# Altium schematic symbol library SCH - MCU - INFINEON XMC - INFINEON XMC1301T038.SchLib: 1 symbol
Pins are listed as number, name and electrical type; pins without a type are passive.

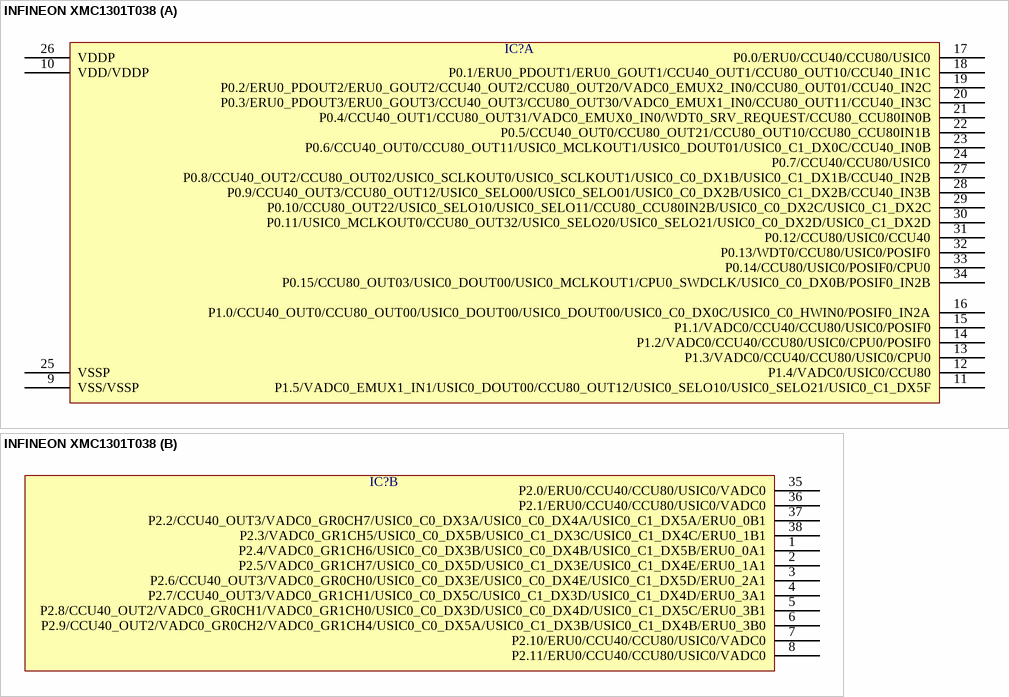
[diagram p0: symbol INFINEON XMC1301T038]

## INFINEON XMC1301T038
designator IC?  (value not drawn)
part A pins: 9 VSS/VSSP, 10 VDD/VDDP, 11 P1.5/VADC0_EMUX1_IN1/USIC0_DOUT00/CCU80_OUT12/USIC0_SELO10/USIC0_SELO21/USIC0_C1_DX5F, 12 P1.4/VADC0/USIC0/CCU80, 13 P1.3/VADC0/CCU40/CCU80/USIC0/CPU0, 14 P1.2/VADC0/CCU40/CCU80/USIC0/CPU0/POSIF0, 15 P1.1/VADC0/CCU40/CCU80/USIC0/POSIF0, 16 P1.0/CCU40_OUT0/CCU80_OUT00/USIC0_DOUT00/USIC0_DOUT00/USIC0_C0_DX0C/USIC0_C0_HWIN0/POSIF0_IN2A, 17 P0.0/ERU0/CCU40/CCU80/USIC0, 18 P0.1/ERU0_PDOUT1/ERU0_GOUT1/CCU40_OUT1/CCU80_OUT10/CCU40_IN1C, 19 P0.2/ERU0_PDOUT2/ERU0_GOUT2/CCU40_OUT2/CCU80_OUT20/VADC0_EMUX2_IN0/CCU80_OUT01/CCU40_IN2C, 20 P0.3/ERU0_PDOUT3/ERU0_GOUT3/CCU40_OUT3/CCU80_OUT30/VADC0_EMUX1_IN0/CCU80_OUT11/CCU40_IN3C, 21 P0.4/CCU40_OUT1/CCU80_OUT31/VADC0_EMUX0_IN0/WDT0_SRV_REQUEST/CCU80_CCU80IN0B, 22 P0.5/CCU40_OUT0/CCU80_OUT21/CCU80_OUT10/CCU80_CCU80IN1B, 23 P0.6/CCU40_OUT0/CCU80_OUT11/USIC0_MCLKOUT1/USIC0_DOUT01/USIC0_C1_DX0C/CCU40_IN0B, 24 P0.7/CCU40/CCU80/USIC0, 25 VSSP, 26 VDDP, 27 P0.8/CCU40_OUT2/CCU80_OUT02/USIC0_SCLKOUT0/USIC0_SCLKOUT1/USIC0_C0_DX1B/USIC0_C1_DX1B/CCU40_IN2B, 28 P0.9/CCU40_OUT3/CCU80_OUT12/USIC0_SELO00/USIC0_SELO01/USIC0_C0_DX2B/USIC0_C1_DX2B/CCU40_IN3B, 29 P0.10/CCU80_OUT22/USIC0_SELO10/USIC0_SELO11/CCU80_CCU80IN2B/USIC0_C0_DX2C/USIC0_C1_DX2C, 30 P0.11/USIC0_MCLKOUT0/CCU80_OUT32/USIC0_SELO20/USIC0_SELO21/USIC0_C0_DX2D/USIC0_C1_DX2D, 31 P0.12/CCU80/USIC0/CCU40, 32 P0.13/WDT0/CCU80/USIC0/POSIF0, 33 P0.14/CCU80/USIC0/POSIF0/CPU0, 34 P0.15/CCU80_OUT03/USIC0_DOUT00/USIC0_MCLKOUT1/CPU0_SWDCLK/USIC0_C0_DX0B/POSIF0_IN2B
part B pins: 1 P2.4/VADC0_GR1CH6/USIC0_C0_DX3B/USIC0_C0_DX4B/USIC0_C1_DX5B/ERU0_0A1, 2 P2.5/VADC0_GR1CH7/USIC0_C0_DX5D/USIC0_C1_DX3E/USIC0_C1_DX4E/ERU0_1A1, 3 P2.6/CCU40_OUT3/VADC0_GR0CH0/USIC0_C0_DX3E/USIC0_C0_DX4E/USIC0_C1_DX5D/ERU0_2A1, 4 P2.7/CCU40_OUT3/VADC0_GR1CH1/USIC0_C0_DX5C/USIC0_C1_DX3D/USIC0_C1_DX4D/ERU0_3A1, 5 P2.8/CCU40_OUT2/VADC0_GR0CH1/VADC0_GR1CH0/USIC0_C0_DX3D/USIC0_C0_DX4D/USIC0_C1_DX5C/ERU0_3B1, 6 P2.9/CCU40_OUT2/VADC0_GR0CH2/VADC0_GR1CH4/USIC0_C0_DX5A/USIC0_C1_DX3B/USIC0_C1_DX4B/ERU0_3B0, 7 P2.10/ERU0/CCU40/CCU80/USIC0/VADC0, 8 P2.11/ERU0/CCU40/CCU80/USIC0/VADC0, 35 P2.0/ERU0/CCU40/CCU80/USIC0/VADC0, 36 P2.1/ERU0/CCU40/CCU80/USIC0/VADC0, 37 P2.2/CCU40_OUT3/VADC0_GR0CH7/USIC0_C0_DX3A/USIC0_C0_DX4A/USIC0_C1_DX5A/ERU0_0B1, 38 P2.3/VADC0_GR1CH5/USIC0_C0_DX5B/USIC0_C1_DX3C/USIC0_C1_DX4C/ERU0_1B1